# EAGLE library part SM5420C-*-A- (library SENSOR)
SENSOR PRES *PSIA SO8 SMD Product Page <http://www.si-micro.com/en/products/view/76>
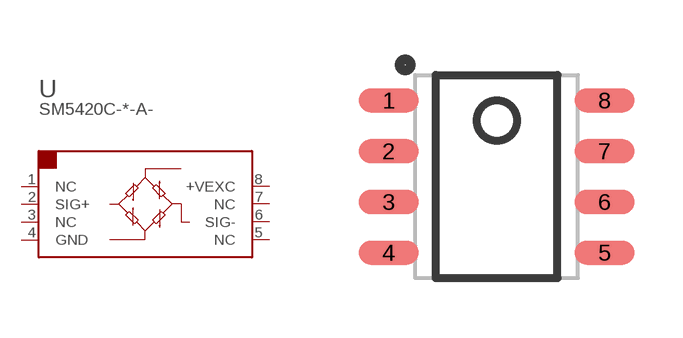
[diagram p2: symbol with the pads of SM5420C; footprint SM5420C]

Designator prefix U

## SM5420C-015-A-H (PRESSURE: 15 PSI), SM5420C-030-A-H (PRESSURE: 30 PSI), SM5420C-060-A-H (PARTNO: 01-100526-00; PRESSURE: 60 PSI), SM5420C-100-A-H (PRESSURE: 100 PSI)  [SM5420C]
1  NC  nc
2  SIG+  out
3  NC  nc
4  GND  pwr
5  NC  nc
6  SIG-  out
7  NC  nc
8  +VEXC  pwr

## SM5420C-015-A-P (PRESSURE: 15 PSI), SM5420C-030-A-P (PRESSURE: 30 PSI), SM5420C-060-A-P (PRESSURE: 60 PSI), SM5420C-100-A-P (PRESSURE: 100 PSI)  [SM5420C]
Pads as for SM5420C

## Footprint SM5420C (pad centres in mm)
SOIC, 8-Leads, 150mil Body Width, SM5420 Pressure Sensor, 5.05x4.06mm, Pitch 1.27mm, Height 2.8mm
smd 1.5 x 0.6: 1 -2.7,1.905; 2 -2.7,0.635; 3 -2.7,-0.635; 4 -2.7,-1.905; 5 2.7,-1.905; 6 2.7,-0.635; 7 2.7,0.635; 8 2.7,1.905